# Altium schematic symbol library Schlib_LED.SchLib: 1 symbol
Pins are listed as number, name and electrical type; pins without a type are passive.

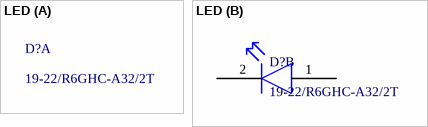
[diagram p0: symbol LED]

## LED
designator D?, comment 19-22/R6GHC-A32/2T
Red,Emerald SMD,1.6x1.9mm LED Indication - Discrete ROHS; Manufacturer: Everlight Elec; ComponentLink1Description: Datasheet; ComponentLink1URL: https://www.lcsc.com/datasheet/lcsc_datasheet_1811141149_Everlight-Elec-19-22-R6GHC-A32-2T_C131262.pdf; Manufacturer part number: 19-22/R6GHC-A32/2T; supplier: LCSC; Supplier part number: C131262
part B pins: 1, 2